# EAGLE library part 2X2D_SCHOTTKY (library dubec)
Diode Array 2 Pair Common Cathode Schottky
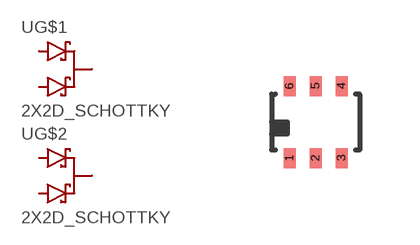
[diagram p19: symbol with the pads of SOT-363; footprint SOT-363]

Designator prefix -; gates G$1=2D_SCH_CC G$2=2D_SCH_CC

## 2X2D_SCHOTTKY100V_0.125A (DIGIKEY_PART_#: BAT54CDW-FDICT-ND; EURO: 17.64/100; MANUFACTURER: Diodes Incorporated; MFG_PART_#: BAT54CDW-7-F; TEMP: -65°C ~ 125°C; V_FWD: 350mV @ 10mA)  [SOT-363]
1  G$1:A1  pas
2  G$1:A2  pas
3  G$2:C  pas
4  G$2:A1  pas
5  G$2:A2  pas
6  G$1:C  pas

## Footprint SOT-363 (pad centres in mm)
smd 0.3 x 0.5: 1 -0.65,-0.9; 2 0,-0.9; 3 0.65,-0.9; 4 0.65,0.9; 5 0,0.9; 6 -0.65,0.9